# Altium schematic symbol library PMIC - AC DC Converters, Offline Switchers.SchLib: 1 symbol
Pins are listed as number, name and electrical type; pins without a type are passive.

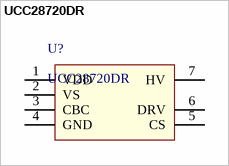
[diagram p0: symbol UCC28720DR]

## UCC28720DR
designator U?
IC REG CTRLR FLYBK ISO 7SOIC; Manufacturer: Texas Instruments; Output Isolation: Isolated; Internal Switch(s): No; Topology: Flyback; Voltage - Start Up: 21V; Voltage - Supply (Vcc/Vdd): 9 V ~ 35 V; Frequency - Switching: 650Hz ~ 80kHz; Fault Protection: Current Limiting, Over Voltage; Duty Cycle - Max: 99 %; Switching Frequency: 0.68 kHz to 80 kHz; Development Kit: UCC28720EVM-212; Operating Supply Voltage: 8.1 V to 35 V; Supplier 1: Digi-Key; Manufacturer Part Number: UCC28720DR; RoHS: RoHS Compliant; Category: Integrated Circuits (ICs); Stock 1: 328; Pricing 1: 1=1.22, 10=1.094, 100=0.8532, 500=0.7056, 1000=0.45 (USD); Packaging: Cut Tape (CT); Part Status: Active; Voltage - Breakdown: -; Duty Cycle: -; Power (Watts): -; Control Features: -; Operating Temperature: -40°C ~ 125°C (TJ); Package / Case: 8-SOIC (0.154", 3.90mm Width) 7 leads; Supplier Device Package: 7-SOIC; Mounting Type: Surface Mount; ComponentLink1URL: http://www.ti.com/lit/ds/symlink/ucc28720.pdf; ComponentLink1Description: http://www.ti.com/lit/ds/symlink/ucc28720.pdf; Supplier 2: Mouser; Stock 2: 2419; Pricing 2: 1=1.18, 10=1.06, 25=0.983, 50=0.882, 100=0.828, 250=0.774, 500=0.684, 1000=0.450, 2500=0.450 (USD); Operating Temperature Range: - 40 C to + 125 C; Series: UCC28720; Type: Current Mode PWM Controllers; Brand: Texas Instruments; Mounting Style: SMD/SMT; Maximum Operating Temperature: + 125 C; Minimum Operating Temperature: - 40 C; Standard Pack Qty: 2500; RoHS - Mouser: Y; Minimum Order Quantity: 1; Reeling: True; Supplier Part Number 1: 296-41058-1-ND; Supplier Part Number 2: 595-UCC28720DR
footprint SOIC-7 (SOIC, 8-Leads, Body 5.0x4.0mm (max), Pitch 1.27mm, IPC Medium Density)
pins: 1 VDD "VDD is the bias supply input pin to the controller. A carefully-placed bypass capacitor to GND is required on this pin.", 2 VS "Voltage sense is an input used to provide voltage and timing feedback to the controller.", 3 CBC "Cable compensation is a programming pin for compensation of cable voltage drop. Cable compensation is programmed with a resistor to GND.", 4 GND "The ground pin is both the reference pin for the controller and the low-side return for the drive output.", 5 CS "Current sense input connects to a ground-referenced current-sense resistor in series with the power switch.", 6 DRV "Drive is an output used to drive the base of an external high voltage NPN transistor.", 7 HV "The high-voltage pin connects directly to the rectified bulk voltage and provides charge to the VDD capacitor for start-up of the power supply."